# Altium footprint library STM32-V5_PCB封装(AD10).PcbLib: 68 footprints (part 5 of 5)
Each footprint in its own frame and in the unit in brackets; x right, y up, seen from the top. Pads: shape width x height; smd on the part's side, far side on the other; paste and mask are expansions set on the pad; w line width, h text height; cw(c..) or ccw(c..) is an arc to the next point about the centre after c.
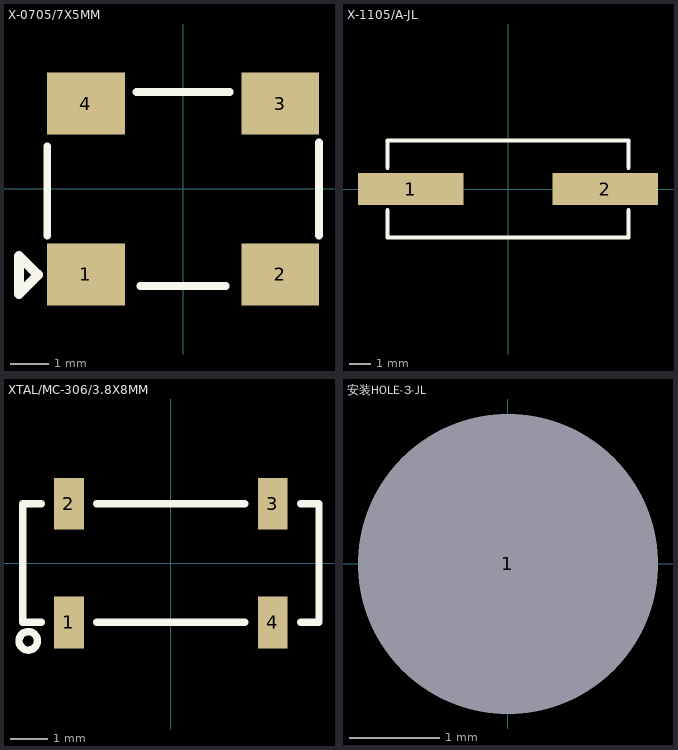
[diagram p4: the footprints below, top view; thin cyan lines are the x and y axes]

## X-0705/7X5MM [mm]
pads (4):
  rect 2x1.6 smd: 1(-2.5,-2.2) 2(2.5,-2.2) 3(2.5,2.2) 4(-2.5,2.2)
Top Overlay:
  lines w0.2: -3.5,-1.2 -3.5,1.1 ; -1.2,2.5 1.2,2.5 ; -1.1,-2.5 1.1,-2.5 ; 3.5,-1.2 3.5,1.2
  lines w0.254: -4.225,-2.7 -3.737,-2.213 -3.737,-2.2 -3.75,-2.2 -4.225,-1.725 -4.225,-2.7

## X-1105/A-JL [mm]
pads (2):
  rect 5x1.5 smd: 1(-4.6,0) 2(4.6,0)
Top Overlay:
  lines w0.203: -5.7,-1 -5.7,-2.3 5.7,-2.3 5.7,-1 ; -5.7,1 -5.7,2.3 5.7,2.3 5.7,1

## XTAL/MC-306/3.8X8MM [mm]
pads (4):
  rect 0.8x1.4 smd: 1(-2.75,-1.6) 2(-2.75,1.6) 3(2.75,1.6) 4(2.75,-1.6)
Top Overlay:
  circle w0.2: c-3.85,-2.1 r0.25
  lines w0.2: -3.5,-1.6 -4,-1.6 -4,1.6 -3.5,1.6 ; -2,-1.6 2,-1.6 ; -2,1.6 2,1.6 ; 3.5,-1.6 4,-1.6 4,1.6 3.5,1.6

## 安装HOLE-3-JL [mm]
pads (1):
  round 3.2 hole 3.302 unplated: 1(0,0)